# Altium footprint library Buttons.PcbLib: 5 footprints
Each footprint in its own frame and in the unit in brackets; x right, y up, seen from the top. Pads: shape width x height; smd on the part's side, far side on the other; paste and mask are expansions set on the pad; w line width, h text height; cw(c..) or ccw(c..) is an arc to the next point about the centre after c.
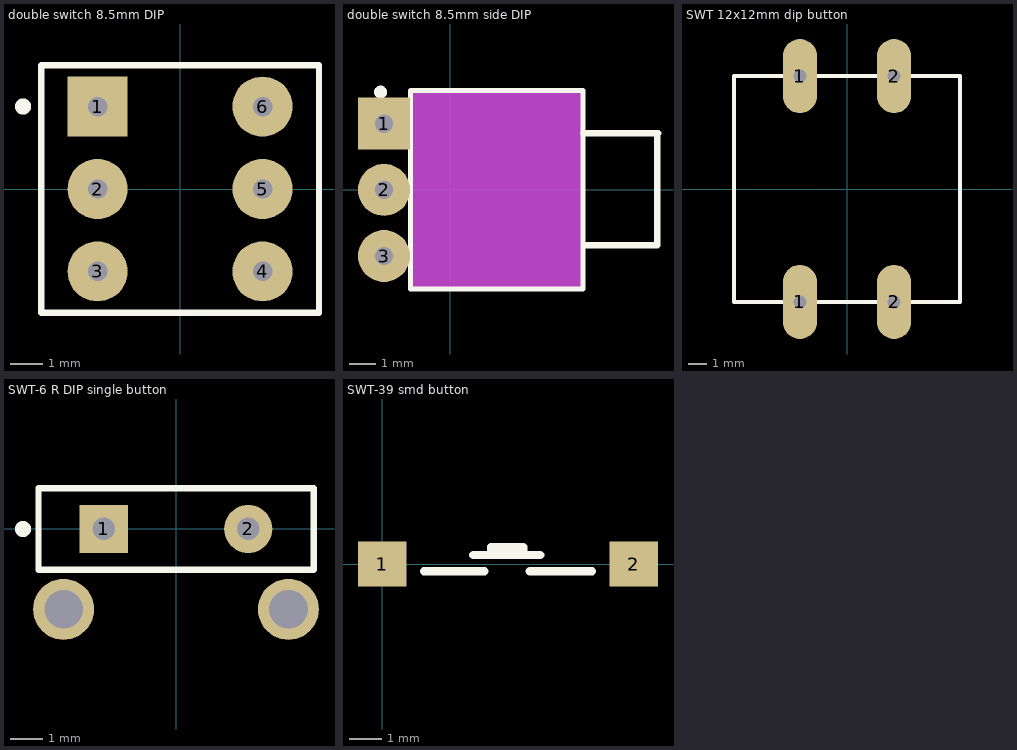
[diagram p0: the footprints below, top view; thin cyan lines are the x and y axes]

## double switch 8.5mm DIP [mm] "Switch; 6 Leads"
pads (6):
  rect 1.85x1.85 hole 0.6: 1(-2.54,2.54)
  round 1.85 hole 0.6: 2(-2.54,0) 3(-2.54,-2.54) 4(2.54,-2.54) 5(2.54,0) 6(2.54,2.54)
Top Overlay:
  circle w0.25: c-4.836,2.541 r0.125
  lines w0.2: -4.28,-3.81 4.28,-3.81 4.28,3.81 -4.28,3.81 -4.28,-3.81
3D body "User Library-button with fixation.step": height 13.21, standoff -3.79, extent -3.5,-3.5 3.5,3.5

## double switch 8.5mm side DIP [mm] "Switch; 3 Leads"
pads (3):
  rect 2x2 hole 0.7: 1(-2.54,2.54)
  round 2 hole 0.7: 2(-2.54,0) 3(-2.54,-2.54)
Top Overlay:
  circle w0.25: c-2.675,3.75 r0.125
  lines w0.2: -1.525,-3.81 -1.525,3.81 5.1,3.81 5.1,-3.81 -1.525,-3.81
  lines w0.254: 5.1,2.175 7.975,2.175 7.95,2.15 7.95,-2.125 ; 5.175,-2.125 7.95,-2.125 ; 7.95,-2.125 7.95,-2.125
Mechanical 1 keep-out:
  region: -1.525,-3.81 5.1,-3.81 5.1,3.81 -1.525,3.81

## SWT 12x12mm dip button [mm] "Big button"
pads (4):
  oval 1.85x4 hole 0.7: 1(-2.54,-6.096) 1(-2.54,6.096) 2(2.54,-6.096) 2(2.54,6.096)
Top Overlay:
  lines w0.2: -6.096,-6.096 6.096,-6.096 6.096,6.096 -6.096,6.096 -6.096,-6.096
3D body "User Library-SWT9-1.step": height 8.81, standoff -1.99, extent -5.969,-6.5 6.031,6.5

## SWT-6 R DIP single button [mm] "Button, 2 Leads"
pads (4):
  rect 1.5x1.5 hole 0.7: 1(-2.25,0)
  round 1.5 hole 0.7: 2(2.25,0)
  round 1.9 hole 1.2: ""(-3.5,-2.5) ""(3.5,-2.5)
Top Overlay:
  circle w0.25: c-4.761,-0.001 r0.125
  lines w0.2: -4.28,-1.27 4.28,-1.27 4.28,1.27 -4.28,1.27 -4.28,-1.27
3D body "User Library-SWT6-R6K.step": height 7.81, standoff -3.49, extent -4.1,-3.963 4.098,8.387

## SWT-39 smd button [mm] "TM1103R25B"
height 2.5
pads (2):
  rect 1.5x1.4 smd: 1(0,0) 2(7.8,0)
Top Overlay:
  lines w0.254: 1.3,-0.225 3.175,-0.225 ; 2.825,0.275 4.9,0.275 ; 3.375,0.35 3.375,0.525 4.375,0.525 4.375,0.3 ; 4.575,-0.225 6.5,-0.225
3D body "User Library-SWT-39.step": height 2.5, standoff 0, extent -0.19,-1.905 7.81,1.795